# EAGLE library part 01STANDARD_PQ3230_THT_V_12PIN (library Wurth Electronics Midcom Inc V1-0)
Package Style: Standard PQ3230 Mounting: THT Pins: 12 pins Bobbin: 070-5621 Best pinouts for production vary per application. Please contact Wurth Electronics Midcom, Inc. for assistance with your custom design. Website: Wurth Electronics Midcom <http://www.we-online.com/midcom> Contact us Wurth Electronics Midcom, Inc. 121 Airport Dr. Watertown, SD 57201 Phone: (605) 886-4385 Fax: (605) 886-4486 E-Mail: midcom@we-online.com
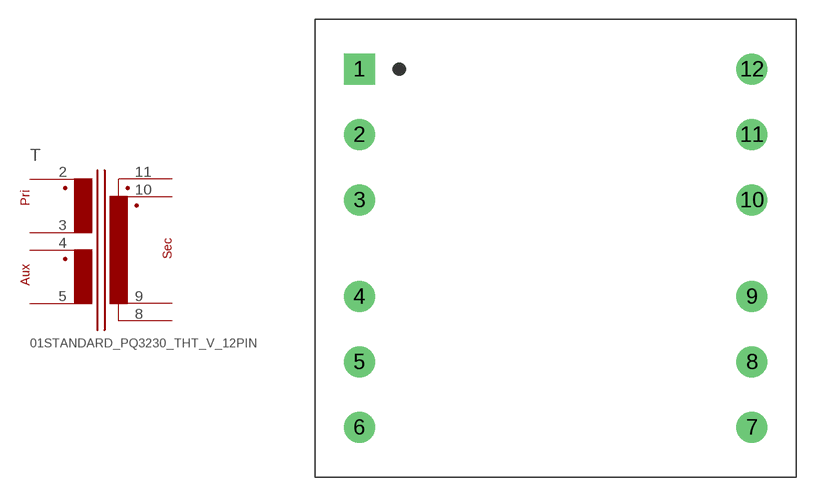
[diagram p193: symbol with the pads of 01STANDARD_PQ3230_THT_V_12PIN; footprint 01STANDARD_PQ3230_THT_V_12PIN]

Designator prefix T

## 01STANDARD_PQ3230_THT_V_12PIN  [01STANDARD_PQ3230_THT_V_12PIN]
2  1  pas
3  2  pas
4  3  pas
5  4  pas
8  6  pas
9  8  pas
10  7  pas
11  5  pas

## Footprint 01STANDARD_PQ3230_THT_V_12PIN (pad centres in mm)
Package Style: Speedy PQ3230 Mounting: THT Pins: 12 pins Bobbin: 070-5621
drill 1.6 square: 1 -15.24,13.906
drill 1.6 round: 2 -15.24,8.826; 3 -15.24,3.747; 4 -15.24,-3.747; 5 -15.24,-8.826; 6 -15.24,-13.906; 7 15.24,-13.906; 8 15.24,-8.826; 9 15.24,-3.747; 10 15.24,3.747; 11 15.24,8.826; 12 15.24,13.906